# EAGLE library part CA56-12SURKWA (library 7seg_x4)
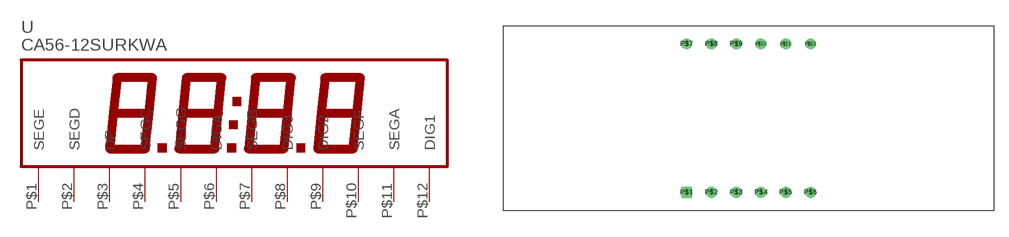
[diagram p1: symbol with the pads of KINGBRIGHT-CA56; footprint KINGBRIGHT-CA56]

Designator prefix -

## CA56-12SURKWA  [KINGBRIGHT-CA56]
P$1  SEGE
P$2  SEGD
P$3  DP
P$4  SEGC
P$5  SEGG
P$6  DIG4
P$7  SEGB
P$8  DIG3
P$9  DIG2
P$10  SEGF
P$11  SEGA
P$12  DIG1

## Footprint KINGBRIGHT-CA56 (pad centres in mm)
Layout for LUMEX LCD LDQ-M284RI
drill 0.6 square: P$1 -6.35,-7.62
drill 0.6: P$2 -3.81,-7.62; P$3 -1.27,-7.62; P$4 1.27,-7.62; P$5 3.81,-7.62; P$6 6.35,-7.62; P$7 -6.35,7.62; P$8 -3.81,7.62; P$9 -1.27,7.62; P$10 1.27,7.62; P$11 3.81,7.62; P$12 6.35,7.62